# EAGLE library part W25Q16JVUXIQ_TR (library redashboard_rp2040)
Check availability <https://pricing.snapeda.com/parts/W25Q16JVUXIQ%20TR/Winbond/view-part?ref=eda>
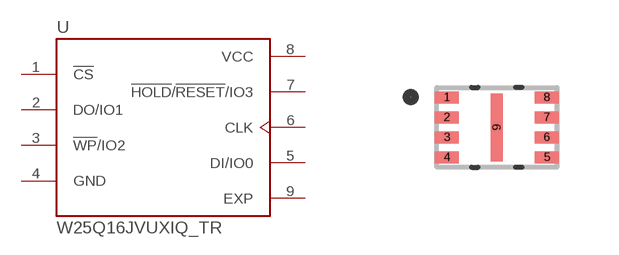
[diagram p3: symbol with the pads of IC_W25Q16JVUXIQ_TR; footprint IC_W25Q16JVUXIQ_TR]

Designator prefix U

## W25Q16JVUXIQ_TR (AVAILABILITY: In Stock; CHECK_PRICES: https://www.snapeda.com/parts/W25Q16JVUXIQ%20TR/Winbond/view-part/?ref=eda; DESCRIPTION: NOR Flash Serial (SPI, Dual SPI, Quad SPI) 3V/3.3V 16M-bit 2M x 8 6ns 8-Pin USON EP T/R; MF: Winbond; MP: W25Q16JVUXIQ TR; PACKAGE: UFDFN-8 Winbond; PRICE: None; SNAPEDA_LINK: https://www.snapeda.com/parts/W25Q16JVUXIQ%20TR/Winbond/view-part/?ref=snap)  [IC_W25Q16JVUXIQ_TR]
1  !CS  in
2  DO/IO1
3  !WP!/IO2
4  GND  pwr
5  DI/IO0
6  CLK  in
7  !HOLD!/!RESET!/IO3
8  VCC  pwr
9  EXP  pas

## Footprint IC_W25Q16JVUXIQ_TR (pad centres in mm)
smd 0.6 x 0.3: 1 -1.25,0.75; 2 -1.25,0.25; 3 -1.25,-0.25; 4 -1.25,-0.75; 5 1.25,-0.75; 6 1.25,-0.25; 7 1.25,0.25; 8 1.25,0.75
smd 0.3 x 1.7: 9 0,0